# Altium footprint library stm32f103core.PcbLib: 20 footprints (part 2 of 2)
Each footprint in its own frame and in the unit in brackets; x right, y up, seen from the top. Pads: shape width x height; smd on the part's side, far side on the other; paste and mask are expansions set on the pad; w line width, h text height; cw(c..) or ccw(c..) is an arc to the next point about the centre after c.
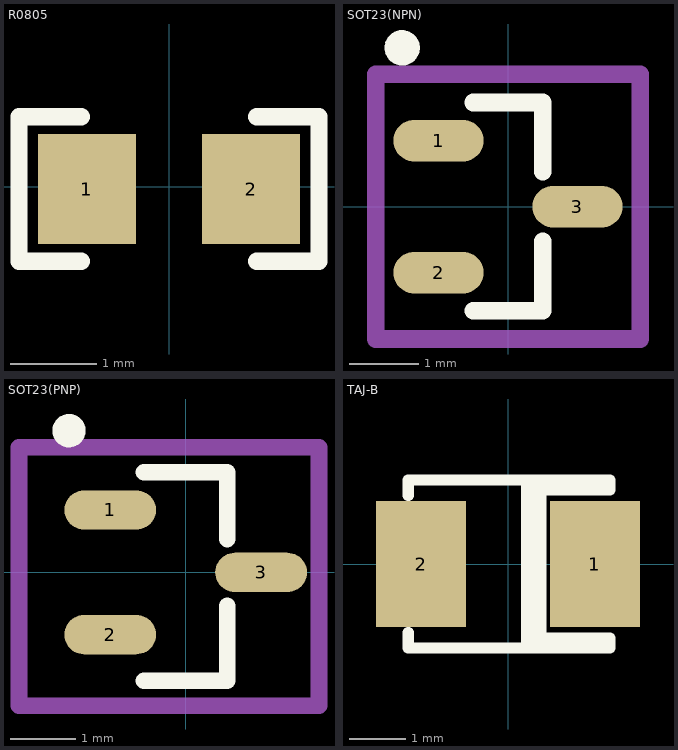
[diagram p1: the footprints below, top view; thin cyan lines are the x and y axes]

## R0805 [mm] "Chip Resistor, Body 1.6x0.8mm, IPC High Density"
height 0.9
pads (2):
  rect 1.14x1.27 smd: 1(-0.95,-0.025) 2(0.95,-0.025)
Top Overlay:
  lines w0.2: -1.016,-0.864 -1.737,-0.864 -1.737,0.813 -1.016,0.813 ; 1.016,-0.864 1.737,-0.864 1.737,0.813 1.016,0.813
3D body "User Library-RES_2013-0805.STEP": height 0.76, standoff 0, extent -1.15,-0.675 1.15,0.675

## SOT23(NPN) [mm] "NPN8050"
pads (3):
  oval 1.3x0.6 smd: 1(-1,0.95) 2(-1,-0.95) 3(1,0)
Top Overlay:
  circle w0.254: c-1.524,2.286 r0.127
  lines w0.254: -0.5,-1.5 0.5,-1.5 0.5,-0.5 ; -0.5,1.5 0.5,1.5 0.5,0.5
Mechanical 15:
  lines w0.254: -1.905,-1.905 -1.905,1.905 1.905,1.905 1.905,-1.905 -1.905,-1.905
3D body "CircuitWorks-SOT-23.STEP": height 1.05, standoff -0.05, extent -1.377,-1.5 1.123,1.5

## SOT23(PNP) [mm] "PNP"
pads (3):
  oval 1.4x0.6 smd: 1(-1.15,0.95) 2(-1.15,-0.95) 3(1.15,0)
Top Overlay:
  circle w0.254: c-1.778,2.159 r0.127
  lines w0.254: -0.635,-1.651 0.635,-1.651 0.635,-1.397 0.635,-0.508 ; -0.635,1.524 0.635,1.524 0.635,0.508
Mechanical 15:
  lines w0.254: -2.54,-2.032 2.032,-2.032 2.032,1.905 -2.54,1.905 -2.54,-2.032
3D body "CircuitWorks-SOT-23.STEP": height 1.05, standoff -0.05, extent -1.377,-1.5 1.123,1.5

## TAJ-B [mm] "钽电容"
pads (2):
  rect 1.6x2.25 smd: 1(1.55,0) 2(-1.55,0)
Top Overlay:
  region: 0.686,1.499 0.229,1.499 0.229,-1.499 0.686,-1.499
  lines w0.2: -1.778,-1.219 -1.778,-1.499 1.821,-1.499 1.821,-1.321 0.483,-1.321 ; -1.778,1.219 -1.778,1.499 1.821,1.499 1.821,1.321 0.61,1.321
3D body "User Library-CaseB_3528-21.STEP": height 1.9, standoff 0, extent -1.75,-1.4 1.75,1.4